# Altium footprint library Diodes SMD.PcbLib: 2 footprints
Each footprint in its own frame and in the unit in brackets; x right, y up, seen from the top. Pads: shape width x height; smd on the part's side, far side on the other; paste and mask are expansions set on the pad; w line width, h text height; cw(c..) or ccw(c..) is an arc to the next point about the centre after c.
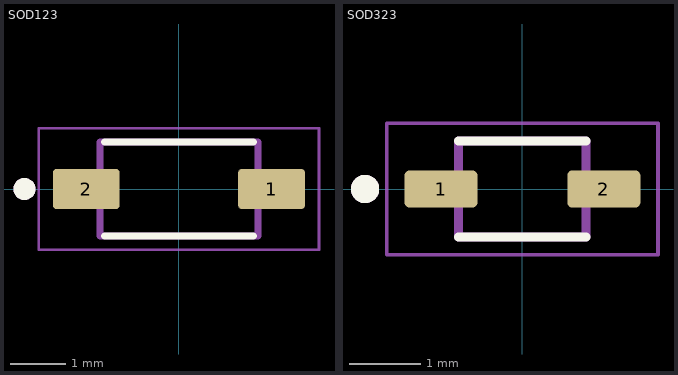
[diagram p0: the footprints below, top view; thin cyan lines are the x and y axes]

## SOD123 [mm]
pads (2):
  rrect18% 1.21x0.73 smd: 1(1.68,0) 2(-1.68,0)
Top Overlay:
  circle w0.2: c-2.8,0 r0.1
  lines w0.127: -1.35,-0.85 1.35,-0.85 ; -1.35,0.85 1.35,0.85
Mechanical 13:
  circle w0.2: c-2.8,0 r0.1
  lines w0.127: -1.43,-0.85 -1.43,0.85 1.43,0.85 1.43,-0.85 -1.43,-0.85
Mechanical 15:
  lines w0.05: -2.54,-1.1 -2.54,1.1 2.54,1.1 2.54,-1.1 -2.54,-1.1
3D body "step_temp.STEP": height 1.45, standoff 0, extent -1.825,-0.775 1.825,0.775

## SOD323 [mm]
pads (2):
  rrect25% 1.03x0.52 smd: 1(-1.15,0) 2(1.15,0)
Top Overlay:
  circle w0.2: c-2.222,0 r0.1
  lines w0.127: -0.9,-0.68 0.9,-0.68 ; -0.9,0.68 0.9,0.68
Mechanical 13:
  circle w0.2: c-2.222,0 r0.1
  lines w0.127: -0.9,-0.68 -0.9,0.68 0.9,0.68 0.9,-0.68 -0.9,-0.68
Mechanical 15:
  lines w0.05: -1.915,-0.93 -1.915,0.93 1.915,0.93 1.915,-0.93 -1.915,-0.93
3D body "step_temp.STEP": height 1.09, standoff 0, extent -1.245,-0.622 1.245,0.622